# EAGLE library part ADXL345 (library pepelac)
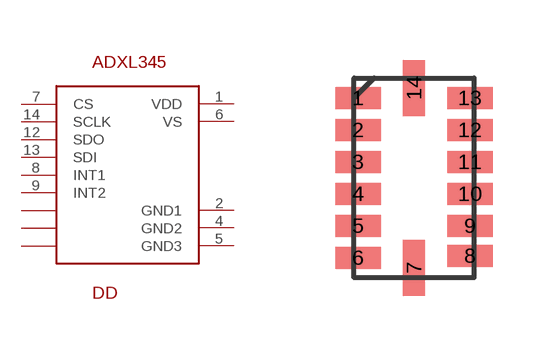
[diagram p4: symbol with the pads of ACC; footprint ACC]

Designator prefix DD

## ADXL345  [ACC]
1  VDD
2  GND1
3  P$1
4  GND2
5  GND3
6  VS
7  CS
8  INT1
9  INT2
10  P$2
11  P$3
12  SDO
13  SDI
14  SCLK

## Footprint ACC (pad centres in mm)
smd 1.145 x 0.55: 1 -1.4,2; 2 -1.4,1.2; 3 -1.4,0.4; 4 -1.4,-0.4; 5 -1.4,-1.2; 6 -1.4,-2; 8 1.4,-1.95; 9 1.4,-1.2; 10 1.4,-0.4; 11 1.4,0.4; 12 1.4,1.2; 13 1.4,2
smd 0.55 x 1.4: 7 0,-2.25; 14 0,2.25